# Altium footprint library Inductor_SRN6045-Series_2-PIN.PcbLib: 1 footprints
Each footprint in its own frame and in the unit in brackets; x right, y up, seen from the top. Pads: shape width x height; smd on the part's side, far side on the other; paste and mask are expansions set on the pad; w line width, h text height; cw(c..) or ccw(c..) is an arc to the next point about the centre after c.
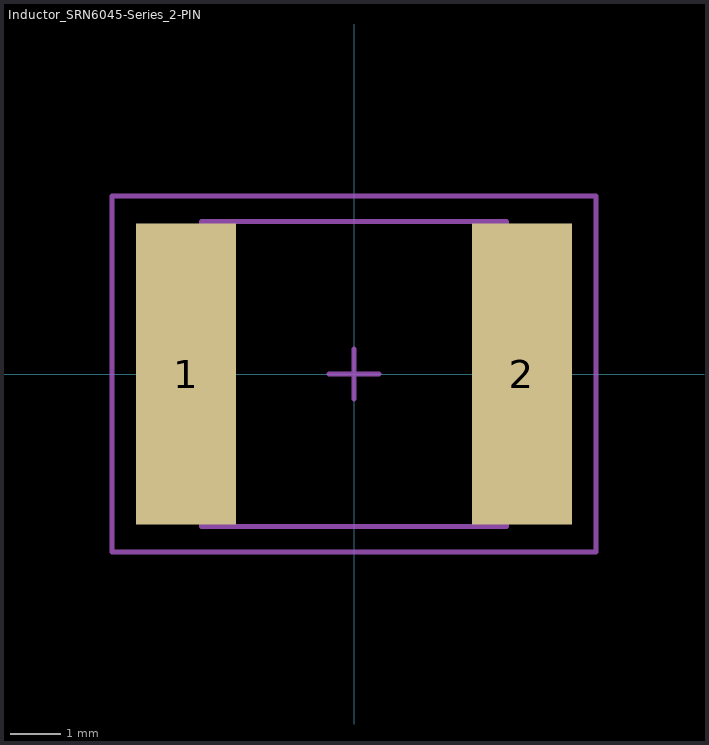
[diagram p0: the footprint, top view; thin cyan lines are the x and y axes]

## Inductor_SRN6045-Series_2-PIN [mm]
height 4.5
pads (2):
  rect 2x6 smd: 1(-3.35,0) 2(3.35,0)
Mechanical 13:
  lines w0.1: -3.048,-3.048 3.048,-3.048 3.048,3.048 -3.048,3.048 -3.048,-3.048
Mechanical 15:
  lines w0.1: -0.5,0 0.5,0 ; 0,-0.5 0,0.5 ; -4.826,-3.556 4.826,-3.556 4.826,3.556 -4.826,3.556 -4.826,-3.556
3D body: height 4.5, standoff 0, extent -3.075,-3.094 3.1,3.094